# Altium footprint library 2x5_Header.PcbLib: 1 footprints
Each footprint in its own frame and in the unit in brackets; x right, y up, seen from the top. Pads: shape width x height; smd on the part's side, far side on the other; paste and mask are expansions set on the pad; w line width, h text height; cw(c..) or ccw(c..) is an arc to the next point about the centre after c.
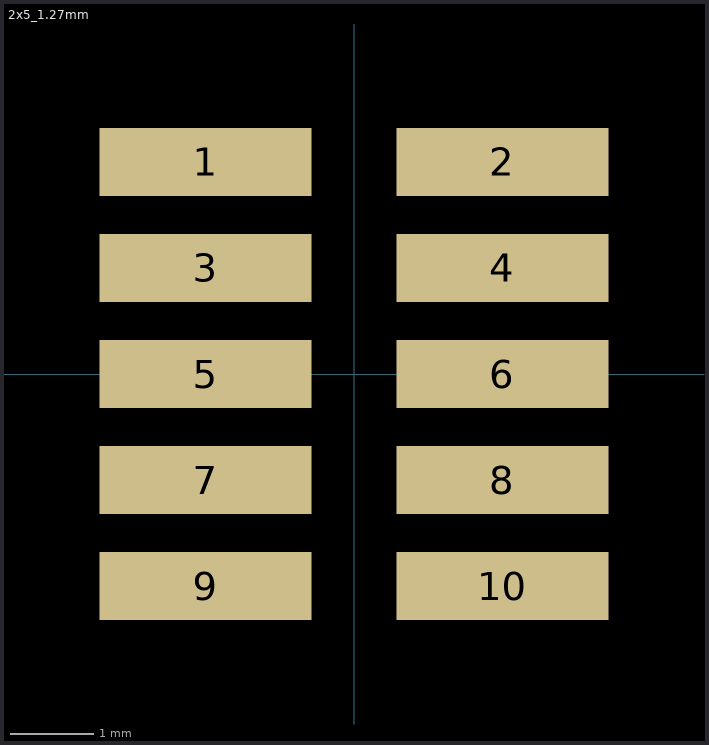
[diagram p0: the footprint, top view; thin cyan lines are the x and y axes]

## 2x5_1.27mm [mil] "2x5 1.27mm pitch SMD Header"
pads (10):
  rect 100x32 smd: 1(-70,100) 2(70,100) 3(-70,50) 4(70,50) 5(-70,0) 6(70,0) 7(-70,-50) 8(70,-50) 9(-70,-100) 10(70,-100)
3D body: height 240, standoff 20, extent -35,90 -15,110
3D body: height 20, standoff 0, extent -110,90 -15,110
3D body: height 240, standoff 20, extent -35,40 -15,60
3D body: height 20, standoff 0, extent -110,40 -15,60
3D body: height 240, standoff 20, extent -35,-10 -15,10
3D body: height 20, standoff 0, extent -110,-10 -15,10
3D body: height 240, standoff 20, extent -35,-60 -15,-40
3D body: height 20, standoff 0, extent -110,-60 -15,-40
3D body: height 240, standoff 20, extent -35,-110 -15,-90
3D body: height 20, standoff 0, extent -110,-110 -15,-90
3D body: height 240, standoff 20, extent 15,90 35,110
3D body: height 20, standoff 0, extent 15,90 110,110
3D body: height 20, standoff 0, extent 15,40 110,60
3D body: height 240, standoff 20, extent 15,40 35,60
3D body: height 20, standoff 0, extent 15,-10 110,10
3D body: height 240, standoff 20, extent 15,-10 35,10
3D body: height 20, standoff 0, extent 15,-60 110,-40
3D body: height 240, standoff 20, extent 15,-60 35,-40
3D body: height 20, standoff 0, extent 15,-110 110,-90
3D body: height 240, standoff 20, extent 15,-110 35,-90
3D body: height 70, standoff 30, extent -50,-125 50,125